# Altium footprint library DIOAD1036W78L520D270.PcbLib: 1 footprints
Each footprint in its own frame and in the unit in brackets; x right, y up, seen from the top. Pads: shape width x height; smd on the part's side, far side on the other; paste and mask are expansions set on the pad; w line width, h text height; cw(c..) or ccw(c..) is an arc to the next point about the centre after c.
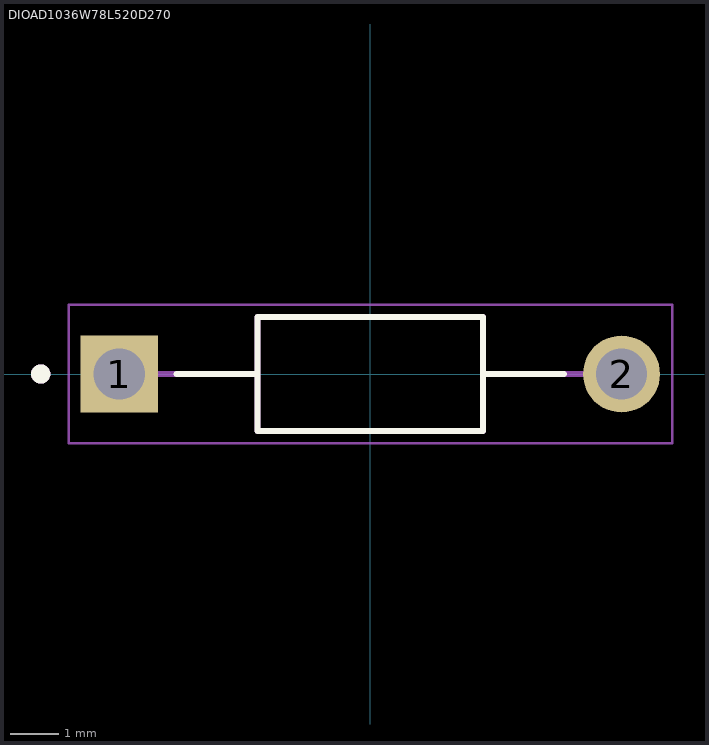
[diagram p0: the footprint, top view; thin cyan lines are the x and y axes]

## DIOAD1036W78L520D270 [mm]
pads (2):
  rect 1.59x1.59 / inner round 1.59 / far side rect 1.59x1.59 hole 1.06 mask+0.102: 1(-5.18,0)
  round 1.59 hole 1.06 mask+0.102: 2(5.18,0)
Top Overlay:
  circle w0.2: c-6.8,0 r0.1
  lines w0.127: -3.995,0 -2.325,0 ; 3.995,0 2.325,0 ; -2.325,0 -2.325,-1.175 2.325,-1.175 2.325,0 ; -2.325,0 -2.325,1.175 2.325,1.175 2.325,0
Assembly Top:
  circle w0.2: c-6.8,0 r0.1
  lines w0.127: -4.385,0 -2.325,0 ; 4.385,0 2.325,0 ; -2.325,0 -2.325,-1.175 2.325,-1.175 2.325,0 ; -2.325,0 -2.325,1.175 2.325,1.175 2.325,0
Courtyard Top:
  lines w0.05: -6.225,-1.425 6.225,-1.425 6.225,1.425 -6.225,1.425 -6.225,-1.425